# EAGLE library part FT201X (library kotuku)
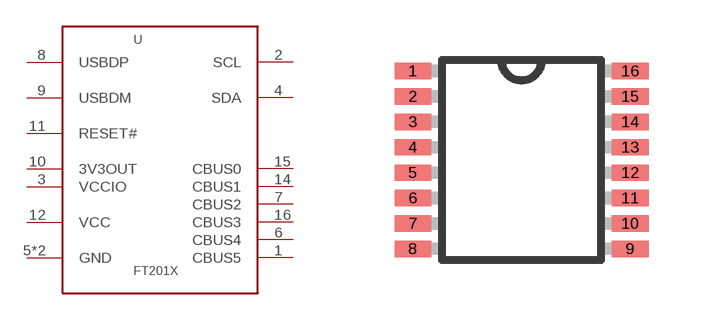
[diagram p16: symbol with the pads of TSSOP-16; footprint TSSOP-16]

Designator prefix -

## FT201X  [TSSOP-16]
1  CBUS5
2  SCL
3  VCCIO
4  SDA
5  GND  pwr
6  CBUS4
7  CBUS2
8  USBDP
9  USBDM
10  3V3OUT
11  RESET#
12  VCC
13  GND  pwr
14  CBUS1
15  CBUS0
16  CBUS3

## Footprint TSSOP-16 (pad centres in mm)
smd 0.914 x 0.406: 1 -2.718,2.223; 2 -2.718,1.587; 3 -2.718,0.953; 4 -2.718,0.318; 5 -2.718,-0.318; 6 -2.718,-0.953; 7 -2.718,-1.587; 8 -2.718,-2.223; 9 2.718,-2.223; 10 2.718,-1.587; 11 2.718,-0.953; 12 2.718,-0.318; 13 2.718,0.318; 14 2.718,0.953; 15 2.718,1.587; 16 2.718,2.223